# Altium schematic symbol library OP AMP CURR SENSE BI TSC.Schlib: 1 symbol
Pins are listed as number, name and electrical type; pins without a type are passive.

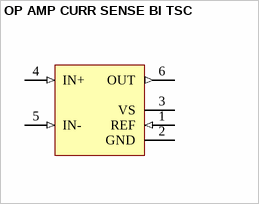
[diagram p0: symbol OP AMP CURR SENSE BI TSC]

## OP AMP CURR SENSE BI TSC
designator U?  (value not drawn)
SP Amp Current Sense Amp Single R-R O/P 5.5V Automotive 6-Pin SC-70 T/R
footprint SC70-6 (Current Sense Amp Footprint)
pins: 1 REF (in), 2 GND (power), 3 VS (power), 4 IN+ (in), 5 IN- (in), 6 OUT (out)